# EAGLE library part NT3H2111 (library NXP-NT3H)
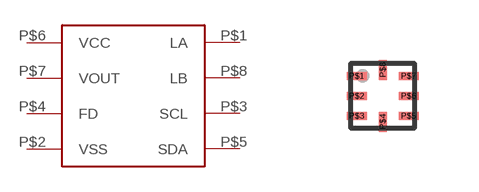
[diagram p1: symbol with the pads of XQFN8; footprint XQFN8]

Designator prefix -

## NT3H2111  [XQFN8]
P$1  LA
P$2  VSS
P$3  SCL
P$4  FD
P$5  SDA
P$6  VCC
P$7  VOUT
P$8  LB

## Footprint XQFN8 (pad centres in mm)
smd 0.5 x 0.2: P$1 -0.65,0.5; P$2 -0.65,0; P$3 -0.65,-0.5; P$5 0.65,-0.5; P$6 0.65,0; P$7 0.65,0.5
smd 0.2 x 0.5: P$4 0,-0.65; P$8 0,0.65